# Altium schematic symbol library CC0402JRX7R8BB104.SchLib: 1 symbol
Pins are listed as number, name and electrical type; pins without a type are passive.

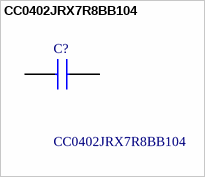
[diagram p0: symbol CC0402JRX7R8BB104]

## CC0402JRX7R8BB104
designator C?
Multilayer Ceramic Capacitors MLCC - SMD/SMT 25 V 0.1uF X7R 0402 5%; Manufacturer_Name: YAGEO; Geometry.Height: 0.55mm; Mouser Part Number: 603-CC0402JR7R8BB104; Mouser Price/Stock: https://www.mouser.co.uk/ProductDetail/YAGEO/CC0402JRX7R8BB104?qs=tS%2FAHvPQ%2F56C6Jcuby2Lxg%3D%3D; Manufacturer_Part_Number: CC0402JRX7R8BB104; Datasheet Link: https://www.yageo.com/upload/media/product/app/datasheet/mlcc/upy-gphc_x7r_6_3v-to-250v.pdf
footprint CAPC1005X55N
pins: 1, 2